# Altium footprint library MXA16A.PcbLib: 1 footprints
Each footprint in its own frame and in the unit in brackets; x right, y up, seen from the top. Pads: shape width x height; smd on the part's side, far side on the other; paste and mask are expansions set on the pad; w line width, h text height; cw(c..) or ccw(c..) is an arc to the next point about the centre after c.
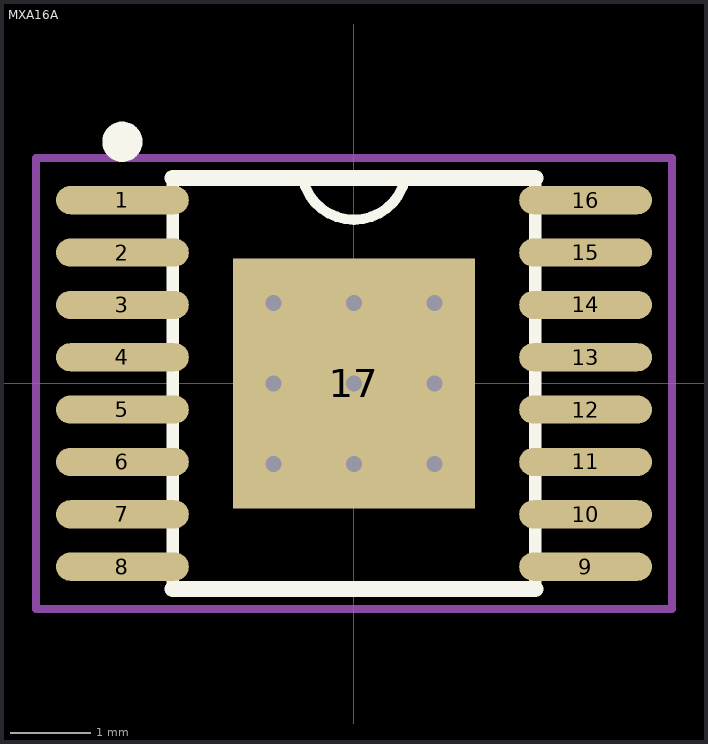
[diagram p0: the footprint, top view; thin cyan lines are the x and y axes]

## MXA16A [mm]
pads (17):
  oval 1.65x0.35 smd: 1(-2.875,2.275) 2(-2.875,1.625) 3(-2.875,0.975) 4(-2.875,0.325) 5(-2.875,-0.325) 6(-2.875,-0.975) 7(-2.875,-1.625) 8(-2.875,-2.275) 9(2.875,-2.275) 10(2.875,-1.625) 11(2.875,-0.975) 12(2.875,-0.325) 13(2.875,0.325) 14(2.875,0.975) 15(2.875,1.625) 16(2.875,2.275)
  rect 3x3.1 smd: 17(0,0)
via -1,0 diameter 0.5 hole 0.2
via 0,0 diameter 0.5 hole 0.2
via -1,-1 diameter 0.5 hole 0.2
via 0,-1 diameter 0.5 hole 0.2
via 0,1 diameter 0.5 hole 0.2
via -1,1 diameter 0.5 hole 0.2
via 1,0 diameter 0.5 hole 0.2
via 1,-1 diameter 0.5 hole 0.2
via 1,1 diameter 0.5 hole 0.2
Top Overlay:
  circle w0.25: c-2.875,3 r0.125
  lines w0.127: -0.635,2.54 ccw(c0,2.683) 0.635,2.54
  lines w0.152: -2.25,-2.55 -2.25,2.55 ; 2.25,-2.55 2.25,2.55
  lines w0.2: -2.25,-2.55 2.25,-2.55 ; -2.25,2.55 2.25,2.55
Mechanical 13:
  lines w0.1: -2.25,-2.55 2.25,-2.55 2.25,2.55 -2.25,2.55 -2.25,-2.55
Mechanical 15:
  lines w0.1: -0.5,0 0.5,0 ; 0,-0.5 0,0.5 ; -3.95,-2.8 3.95,-2.8 3.95,2.8 -3.95,2.8 -3.95,-2.8
3D body: height 1.1, standoff 0, extent -2.25,-2.55 2.25,2.55